# EAGLE library part NUCLEO_F411RE_ARDUINO (library stm32_nucleo_shield)
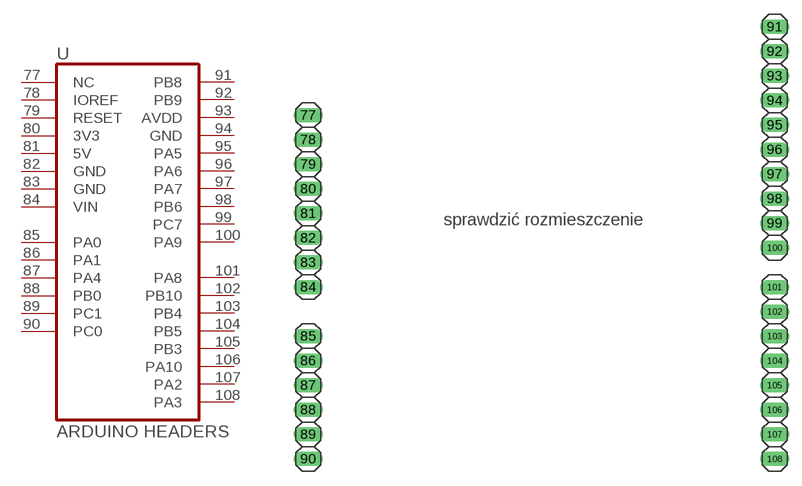
[diagram p2: symbol with the pads of ARDUINO_HEADERS; footprint ARDUINO_HEADERS]

Designator prefix -

## NUCLEO_F411RE_ARDUINO  [ARDUINO_HEADERS]
77  NC  nc
78  IOREF  in
79  RESET  in
80  3V3  pwr
81  5V  pwr
82  GND  pwr
83  GND  pwr
84  VIN  pwr
85  PA0
86  PA1
87  PA4
88  PB0
89  PC1
90  PC0
91  PB8
92  PB9
93  AVDD  pwr
94  GND  pwr
95  PA5
96  PA6
97  PA7
98  PB6
99  PC7
100  PA9
101  PA8
102  PB10
103  PB4
104  PB5
105  PB3
106  PA10
107  PA2
108  PA3

## Footprint ARDUINO_HEADERS (pad centres in mm)
drill 1.016 long: 77 -24.13,12.7; 78 -24.13,10.16; 79 -24.13,7.62; 80 -24.13,5.08; 81 -24.13,2.54; 82 -24.13,0; 83 -24.13,-2.54; 84 -24.13,-5.08; 85 -24.13,-10.16; 86 -24.13,-12.7; 87 -24.13,-15.24; 88 -24.13,-17.78; 89 -24.13,-20.32; 90 -24.13,-22.86; 91 24.13,21.844; 92 24.13,19.304; 93 24.13,16.764; 94 24.13,14.224; 95 24.13,11.684; 96 24.13,9.144; 97 24.13,6.604; 98 24.13,4.064; 99 24.13,1.524; 100 24.13,-1.016; 101 24.13,-5.08; 102 24.13,-7.62; 103 24.13,-10.16; 104 24.13,-12.7; 105 24.13,-15.24; 106 24.13,-17.78; 107 24.13,-20.32; 108 24.13,-22.86